# Altium integrated library Integrated_Circuts.IntLib: 6 symbols
Pins are listed as number, name and electrical type; pins without a type are passive.

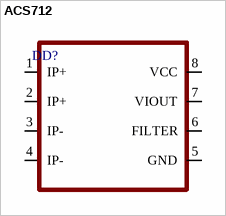
[diagram p0: symbol ACS712]

## ACS712
designator DD?
footprint SO8-150
pins: 1 IP+, 2 IP+, 3 IP-, 4 IP-, 5 GND, 6 FILTER, 7 VIOUT, 8 VCC


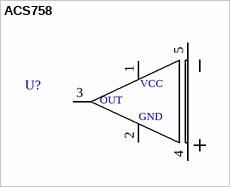
[diagram p1: symbol ACS758]

## ACS758
designator U?  (value not drawn)
footprint Model Name (Model Description)
footprint ACS758-100
pins: 1 +VCC, 2 GND, 3 OUT, 4 +IP, 5 -IP
text: VCC


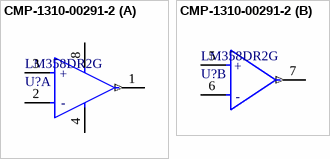
[diagram p2: symbol CMP-1310-00291-2]

## CMP-1310-00291-2
designator U?, comment LM358DR2G
IC OPAMP GP 2 CIRCUIT 8SOIC; Gain Bandwidth Product: 1MHz; Number of Circuits: 2; Min Supply Voltage: 3V; Slew Rate: 0.6V/µs; Max Dual Supply Voltage: 16V; Common Mode Rejection Ratio: 65dB; Input Bias Current: 250nA; Min Dual Supply Voltage: 1.5V; Dual Supply Voltage: 9V; Operating Supply Current: 1.5mA; Output Current: 40mA; Input Offset Voltage (Vos): 7mV; Nominal Supply Current: 1.2mA; Voltage Gain: 100dB; Max Supply Voltage: 32V; Width: 4mm; Number of Pins: 8; Min Operating Temperature: 0°C; REACH SVHC: No SVHC; Contact Plating: Tin; Lead Free: Lead Free; Halogen Free: Halogen Free; Power Supply Rejection Ratio (PSRR): 65dB; Operating Supply Voltage: 16V; Package Quantity: 2500; Max Operating Temperature: 70°C; Case/Package: SOIC; Height: 1.5mm; Packaging: Tape and Reel; Radiation Hardening: No; Number of Channels: 2; Bandwidth: 1MHz; Length: 5mm; Number of Elements: 2; Number of Amplifiers: 2; Output Current per Channel: 40mA
footprint FP-751-07-IPC_B
footprint FP-751-07-IPC_C
footprint FP-751-07-IPC_A
footprint FP-751-07-MFG
part A pins: 1 OUTPUT A (out), 2 INPUT A- (hiz), 3 INPUT A+ (hiz), 4 VEE/GND (power), 8 VCC (power)
part B pins: 5 INPUT B+ (hiz), 6 INPUT B- (hiz), 7 OUTPUT B (out)
part A text: +; -
part B text: +; -


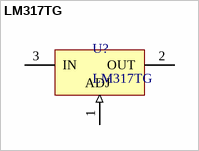
[diagram p3: symbol LM317TG]

## LM317TG
designator U?
footprint TO-220_Bended_Rad
pins: 1 ADJ (in), 2 OUT (power), 3 IN (power)


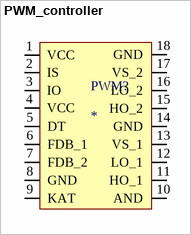
[diagram p4: symbol PWM_controller]

## PWM_controller
designator PWM?
PWM_controller
footprint PWM_controller
pins: 1 VCC, 2 IS, 3 IO, 4 VCC, 5 DT, 6 FDB_1, 7 FDB_2, 8 GND, 9 KAT, 10 AND, 11 HO_1, 12 LO_1, 13 VS_1, 14 GND, 15 HO_2, 16 LO_2, 17 VS_2, 18 GND


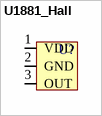
[diagram p5: symbol U1881_Hall]

## U1881_Hall
designator U?  (value not drawn)
footprint U1881
pins: 1 VDD, 2 GND, 3 OUT